# EAGLE library part 613024143121 (library Wurth_Elektronik2)
WR-PHD 2.54mm Angled Socket Header, 24 Pins =>Code : Con_BTB_SHD_2.54_1_THT_613024143121 <http://katalog.we-online.de/media/images/eican/Con_BTB_SHD_2.54_1_THT_6130xx143121_pf2.jpg> Details see: http://katalog.we-online.de/en/em/613_0xx_143_121 Created 2014-05-29, Karrer Zheng 2014 (C) Würth Elektronik
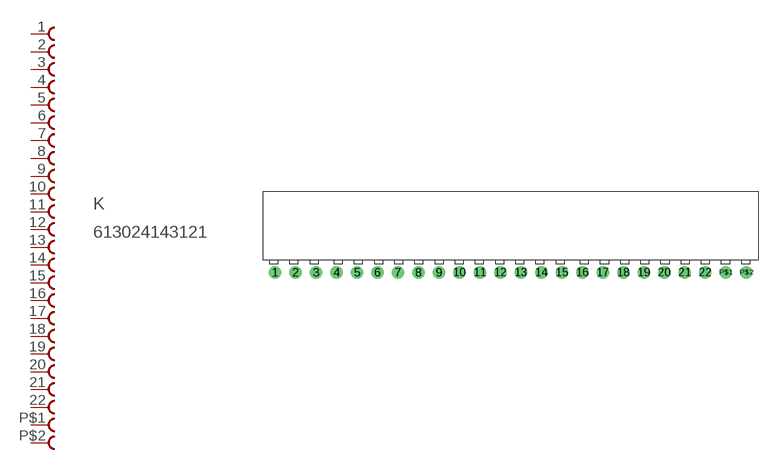
[diagram p143: symbol with the pads of 613024143121; footprint 613024143121]

Designator prefix K

## 613024143121  [613024143121]
1  1  pas
2  2  pas
3  3  pas
4  4  pas
5  5  pas
6  6  pas
7  7  pas
8  8  pas
9  9  pas
10  10  pas
11  11  pas
12  12  pas
13  13  pas
14  14  pas
15  15  pas
16  16  pas
17  17  pas
18  18  pas
19  19  pas
20  20  pas
21  21  pas
22  22  pas
P$1  23  pas
P$2  24  pas

## Footprint 613024143121 (pad centres in mm)
WR-PHD 2.54mm Angled Socket Header, 24 Pins
drill 1.02: 1 -53.34,0; 2 -50.8,0; 3 -48.26,0; 4 -45.72,0; 5 -43.18,0; 6 -40.64,0; 7 -38.1,0; 8 -35.56,0; 9 -33.02,0; 10 -30.48,0; 11 -27.94,0; 12 -25.4,0; 13 -22.86,0; 14 -20.32,0; 15 -17.78,0; 16 -15.24,0; 17 -12.7,0; 18 -10.16,0; 19 -7.62,0; 20 -5.08,0; 21 -2.54,0; 22 0,0; P$1 2.54,0; P$2 5.08,0